# EAGLE library part MMA865XFC (library pimoroni-ics)
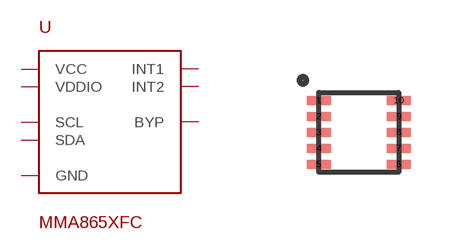
[diagram p26: symbol with the pads of DFN-10; footprint DFN-10]

Designator prefix -

## MMA865XFC  [DFN-10]
1  VCC
2  SCL
3  INT1
4  BYP
5  INT2
6  GND
7  GND
8  VDDIO
9  GND
10  SDA

## Footprint DFN-10 (pad centres in mm)
smd 0.6 x 0.225: 1 -1,0.8; 2 -1,0.4; 3 -1,0; 4 -1,-0.4; 5 -1,-0.8; 6 1,-0.8; 7 1,-0.4; 8 1,0; 9 1,0.4; 10 1,0.8